# Altium schematic symbol library PIC16F15323T-I_ST.Schlib: 1 symbol
Pins are listed as number, name and electrical type; pins without a type are passive.

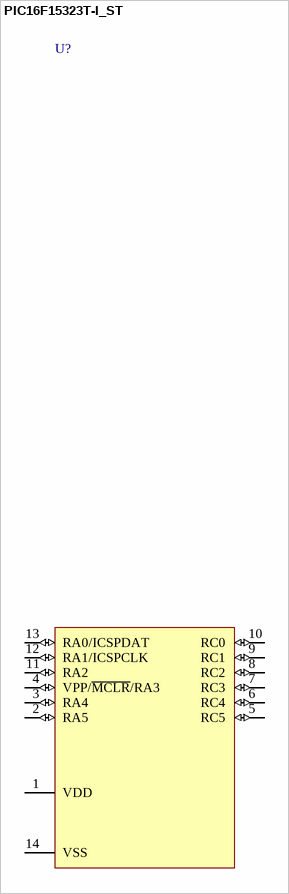
[diagram p0: symbol PIC16F15323T-I_ST]

## PIC16F15323T-I_ST
designator U?
pins: 1 VDD (power), 2 RA5 (io), 3 RA4 (io), 4 VPP/~{MCLR}/RA3 (io), 5 RC5 (io), 6 RC4 (io), 7 RC3 (io), 8 RC2 (io), 9 RC1 (io), 10 RC0 (io), 11 RA2 (io), 12 RA1/ICSPCLK (io), 13 RA0/ICSPDAT (io), 14 VSS (power)